# EAGLE library part ATMEGA328P (library Underwater-Camera-v2.0)
IC MCU 8BIT 32KB FLASH 32TQFP
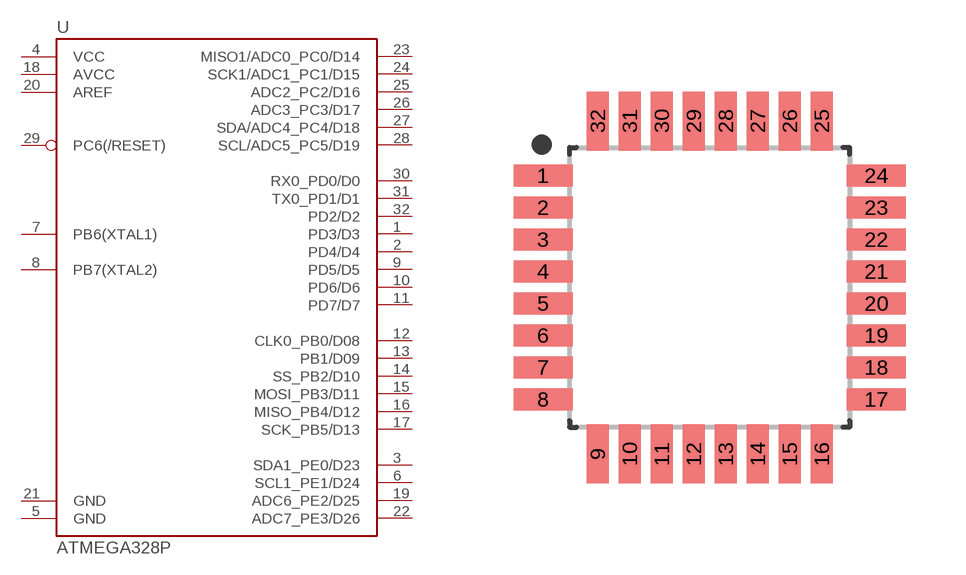
[diagram p4: symbol with the pads of QFP80P900X900X120-32; footprint QFP80P900X900X120-32]

Designator prefix -

## ATMEGA328P  [QFP80P900X900X120-32]
1  PD3/D3
2  PD4/D4
3  SDA1_PE0/D23
4  VCC
5  GND
6  SCL1_PE1/D24
7  PB6(XTAL1)
8  PB7(XTAL2)
9  PD5/D5
10  PD6/D6
11  PD7/D7
12  CLK0_PB0/D08
13  PB1/D09
14  SS_PB2/D10
15  MOSI_PB3/D11
16  MISO_PB4/D12
17  SCK_PB5/D13
18  AVCC
19  ADC6_PE2/D25
20  AREF
21  GND
22  ADC7_PE3/D26
23  MISO1/ADC0_PC0/D14
24  SCK1/ADC1_PC1/D15
25  ADC2_PC2/D16
26  ADC3_PC3/D17
27  SDA/ADC4_PC4/D18
28  SCL/ADC5_PC5/D19
29  PC6(/RESET)
30  RX0_PD0/D0
31  TX0_PD1/D1
32  PD2/D2

## Footprint QFP80P900X900X120-32 (pad centres in mm)
32-QFP, 0.80 mm pitch, 9.00 mm span, 7.00 X 7.00 X 1.20 mm body 32-pin QFP package with 0.80 mm pitch, 9.00 mm lead span1 X 9.00 mm lead span2 with body size 7.00 X 7.00 X 1.20 mm
smd 1.478 x 0.547: 1 -4.167,2.8; 2 -4.167,2; 3 -4.167,1.2; 4 -4.167,0.4; 5 -4.167,-0.4; 6 -4.167,-1.2; 7 -4.167,-2; 8 -4.167,-2.8; 17 4.167,-2.8; 18 4.167,-2; 19 4.167,-1.2; 20 4.167,-0.4; 21 4.167,0.4; 22 4.167,1.2; 23 4.167,2; 24 4.167,2.8
smd 0.547 x 1.478: 9 -2.8,-4.167; 10 -2,-4.167; 11 -1.2,-4.167; 12 -0.4,-4.167; 13 0.4,-4.167; 14 1.2,-4.167; 15 2,-4.167; 16 2.8,-4.167; 25 2.8,4.167; 26 2,4.167; 27 1.2,4.167; 28 0.4,4.167; 29 -0.4,4.167; 30 -1.2,4.167; 31 -2,4.167; 32 -2.8,4.167